# EAGLE library part ATLAS-ISOLATOR (library Webmaster442)
Atlas scientific basic inline voltage isolator http://www.atlas-scientific.com/_files/_datasheets/_circuit/basic-ezo-inline-voltage-isolator.pdf
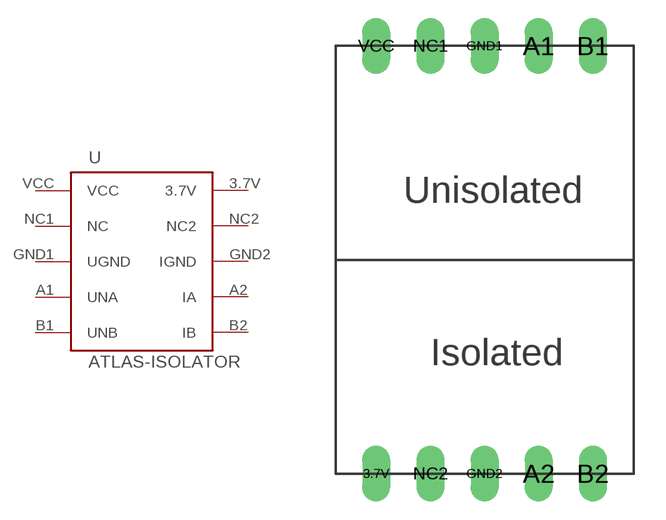
[diagram p22: symbol with the pads of ATLAS-ISOLATOR; footprint ATLAS-ISOLATOR]

Designator prefix -

## ATLAS-ISOLATOR  [ATLAS-ISOLATOR]
3.7V  3.7V
A1  UNA
A2  IA
B1  UNB
B2  IB
GND1  UGND
GND2  IGND
NC1  NC
NC2  NC2
VCC  VCC

## Footprint ATLAS-ISOLATOR (pad centres in mm)
drill 0.8 long: 3.7V -5.08,0; A1 2.54,20.066; A2 2.54,0; B1 5.08,20.066; B2 5.08,0; GND1 0,20.066; GND2 0,0; NC1 -2.54,20.066; NC2 -2.54,0; VCC -5.08,20.066